# Altium footprint library RES-2512_N.PcbLib: 1 footprints
Each footprint in its own frame and in the unit in brackets; x right, y up, seen from the top. Pads: shape width x height; smd on the part's side, far side on the other; paste and mask are expansions set on the pad; w line width, h text height; cw(c..) or ccw(c..) is an arc to the next point about the centre after c.
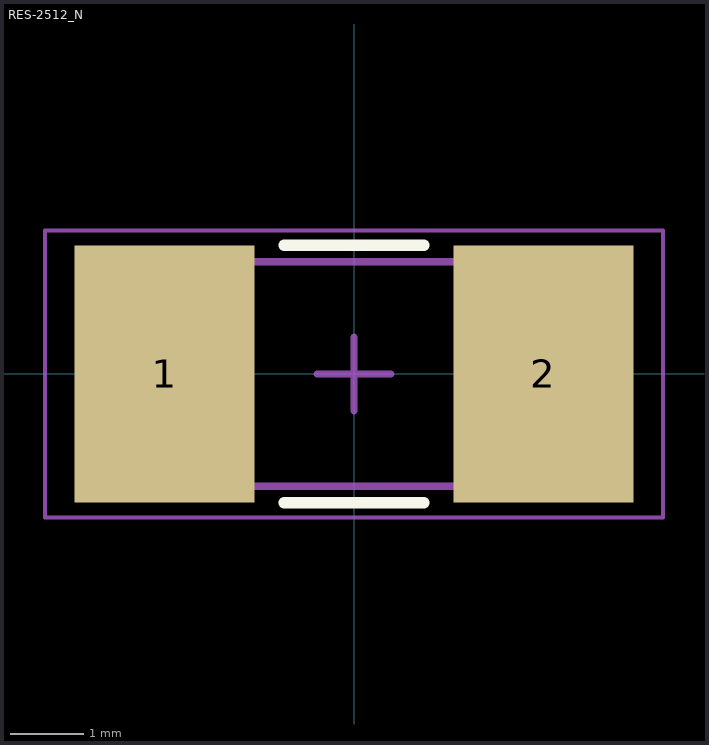
[diagram p0: the footprint, top view; thin cyan lines are the x and y axes]

## RES-2512_N [mm] "Chip Capacitor, 2-Leads, Body 7.60x3.70mm, IPC High Density"
height 0.6
pads (2):
  rect 2.45x3.5 smd: 1(-2.575,0) 2(2.575,0)
Top Overlay:
  lines w0.152: -0.95,-1.75 0.95,-1.75 ; -0.95,1.75 0.95,1.75
Mechanical 13:
  lines w0.1: -3.175,-1.524 3.175,-1.524 3.175,1.524 -3.175,1.524 -3.175,-1.524
Mechanical 15:
  lines w0.05: -4.2,-1.95 4.2,-1.95 4.2,1.95 -4.2,1.95 -4.2,-1.95
  lines w0.1: -0.5,0 0.5,0 ; 0,-0.5 0,0.5
3D body: height 1.6, standoff 0, extent -3.175,-1.5 3.175,1.5